# Altium footprint library Samtec-MEC2-50-01-L-TH1-WT.PcbLib: 1 footprints
Each footprint in its own frame and in the unit in brackets; x right, y up, seen from the top. Pads: shape width x height; smd on the part's side, far side on the other; paste and mask are expansions set on the pad; w line width, h text height; cw(c..) or ccw(c..) is an arc to the next point about the centre after c.
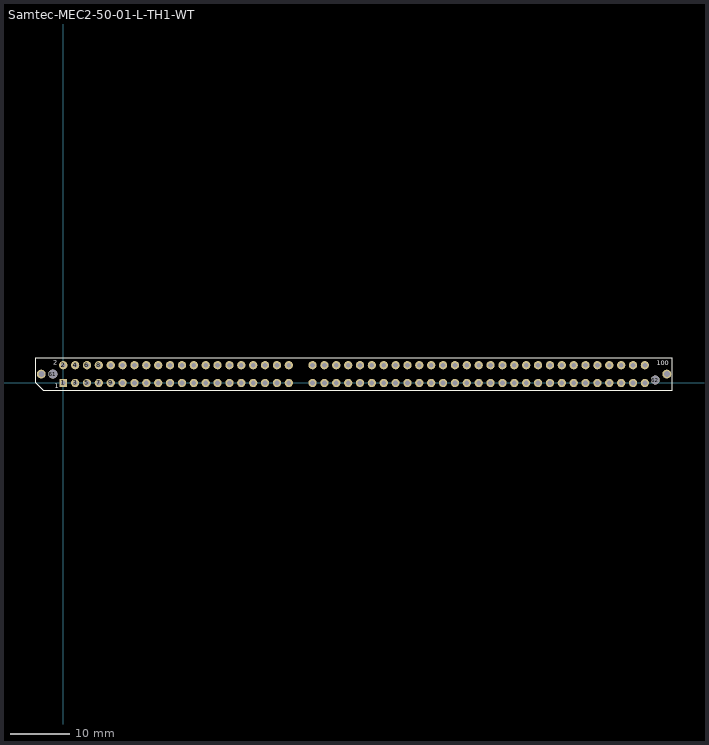
[diagram p0: the footprint, top view; thin cyan lines are the x and y axes]

## Samtec-MEC2-50-01-L-TH1-WT [mm] "MEC2-50-01-L-TH1-WT, 2x50-pol, mit Polarisation"
pads (102):
  rect 1.3x1.3 hole 0.8: 1(0,0)
  round 1.4 hole 0.8: 2(0,3) 3(2,0) 4(2,3) 5(4,0) 6(4,3) 7(6,0) 8(6,3) 9(8,0) 10(8,3) 11(10,0) 12(10,3) 13(12,0) 14(12,3) 15(14,0) 16(14,3) 17(16,0) 18(16,3) 19(18,0) 20(18,3) 21(20,0) 22(20,3) 23(22,0) 24(22,3) 25(24,0) 26(24,3) 27(26,0) 28(26,3) 29(28,0) 30(28,3) 31(30,0) 32(30,3) 33(32,0) 34(32,3) 35(34,0) 36(34,3) 37(36,0) 38(36,3) 39(38,0) 40(38,3) 43(42,0) 44(42,3) 45(44,0) 46(44,3) 47(46,0) 48(46,3) 49(48,0) 50(48,3) 51(50,0) 52(50,3) 53(52,0) 54(52,3) 55(54,0) 56(54,3) 57(56,0) 58(56,3) 59(58,0) 60(58,3) 61(60,0) 62(60,3) 63(62,0) 64(62,3) 65(64,0) 66(64,3) 67(66,0) 68(66,3) 69(68,0) 70(68,3) 71(70,0) 72(70,3) 73(72,0) 74(72,3) 75(74,0) 76(74,3) 77(76,0) 78(76,3) 79(78,0) 80(78,3) 81(80,0) 82(80,3) 83(82,0) 84(82,3) 85(84,0) 86(84,3) 87(86,0) 88(86,3) 89(88,0) 90(88,3) 91(90,0) 92(90,3) 93(92,0) 94(92,3) 95(94,0) 96(94,3) 97(96,0) 98(96,3) 99(98,0) 100(98,3)
  round 1.5 hole 1.5 unplated: 61(-1.75,1.5) 62(99.755,0.5)
  round 1.5 hole 1: WT1(-3.7,1.5) WT2(101.705,1.5)
Top Overlay:
  lines w0.152: -4.623,0 -4.623,4.242 102.6,4.242 102.6,-1.219 -3.404,-1.219 -4.623,0
  text "1" at -1.448,-0.864 h0.81
  text "2" at -1.676,3.048 h0.81
  text "100" at 100,3 h0.81
3D body "MEC2-50-01-L-TH1-WT.stp": height 8.76, standoff -2.09, extent -4.7,-1.302 102.7,4.302